# Altium integrated library linx.IntLib: 5 symbols
Pins are listed as number, name and electrical type; pins without a type are passive.

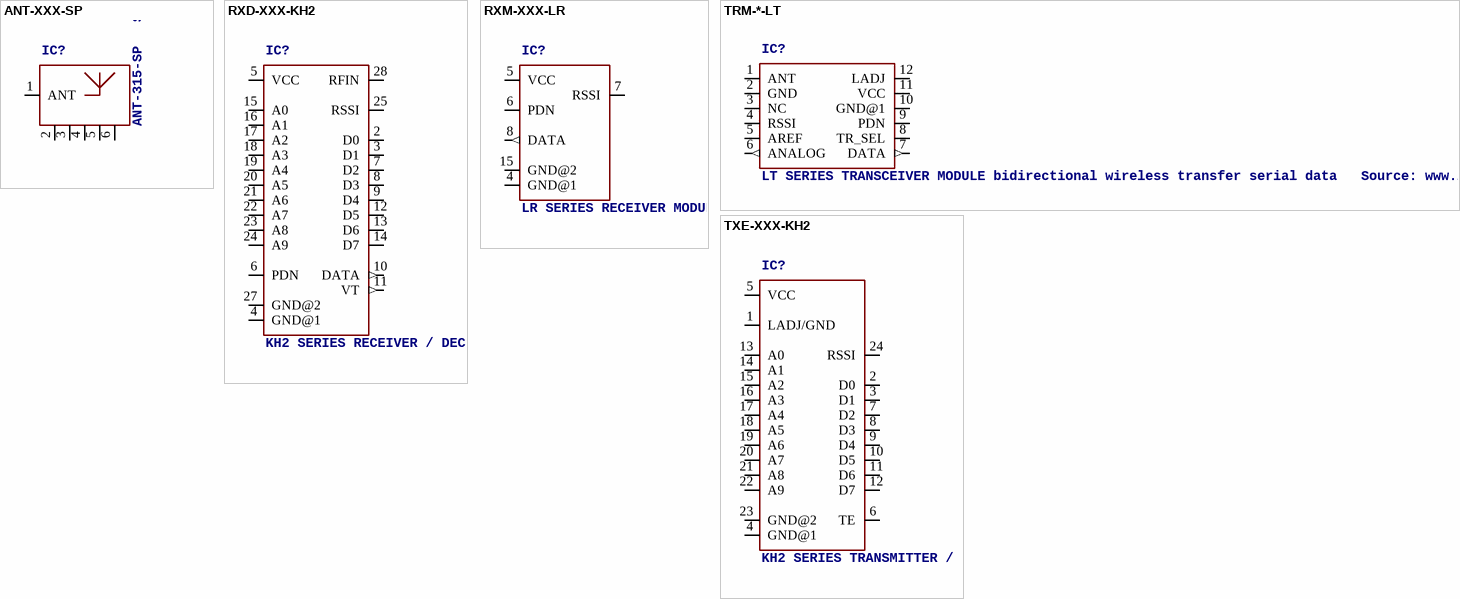
[diagram p0: symbols ANT-XXX-SP to TXE-XXX-KH2]

## ANT-XXX-SP
designator IC?, comment ANT-315-SP   Source: http://www.antennafactor.com/documents/ANT-315-SP_Data_Sheet.pdf
OC_FARNELL: unknown; OC_NEWARK: unknown
footprint ANT-XXX-SP
pins: 1 ANT, 2 GND@1, 3 GND@2, 4 GND@3, 5 GND@4, 6 GND@5

## RXD-XXX-KH2
designator IC?, comment KH2 SERIES RECEIVER / DECODER   Source: http://www.linxtechnologies.com .. RXD-xxx-KH2_Data_Guide.pdf
OC_FARNELL: unknown; OC_NEWARK: unknown
footprint RXD-XXX-KH2
pins: 2 D0, 3 D1, 4 GND@1 (power), 5 VCC (power), 6 PDN, 7 D2, 8 D3, 9 D4, 10 DATA (out), 11 VT (out), 12 D5, 13 D6, 14 D7, 15 A0, 16 A1, 17 A2, 18 A3, 19 A4, 20 A5, 21 A6, 22 A7, 23 A8, 24 A9, 25 RSSI, 27 GND@2 (power), 28 RFIN

## RXM-XXX-LR
designator IC?, comment LR SERIES RECEIVER MODULE   Source: http://www.linxtechnologies.com .. RXM-xxx-LR_Data_Guide.pdf
OC_FARNELL: unknown; OC_NEWARK: unknown
footprint RXM-XXX-LR
pins: 4 GND@1 (power), 5 VCC (power), 6 PDN, 7 RSSI, 8 DATA (out), 15 GND@2 (power)

## TRM-*-LT
designator IC?, comment LT SERIES TRANSCEIVER MODULE bidirectional wireless transfer serial data   Source: www.linxtechnologies.com .. TRM-xxx-LT_Data_Guide.pdf
OC_FARNELL: unknown; OC_NEWARK: unknown
footprint TRM-XXX-LT
pins: 1 ANT, 2 GND (power), 3 NC, 4 RSSI, 5 AREF, 6 ANALOG (out), 7 DATA (out), 8 TR_SEL, 9 PDN, 10 GND@1 (power), 11 VCC (power), 12 LADJ (power)

## TXE-XXX-KH2
designator IC?, comment KH2 SERIES TRANSMITTER / ENCODER   Source: http://www.linxtechnologies.com .. TXE-xxx-KH2_Data_Guide.pdf
OC_FARNELL: unknown; OC_NEWARK: unknown
footprint TXD-XXX-KH2
pins: 1 LADJ/GND, 2 D0, 3 D1, 4 GND@1 (power), 5 VCC (power), 6 TE, 7 D2, 8 D3, 9 D4, 10 D5, 11 D6, 12 D7, 13 A0, 14 A1, 15 A2, 16 A3, 17 A4, 18 A5, 19 A6, 20 A7, 21 A8, 22 A9, 23 GND@2 (power), 24 RSSI